# Altium footprint library ICs.PcbLib: 32 footprints (part 2 of 2)
Each footprint in its own frame and in the unit in brackets; x right, y up, seen from the top. Pads: shape width x height; smd on the part's side, far side on the other; paste and mask are expansions set on the pad; w line width, h text height; cw(c..) or ccw(c..) is an arc to the next point about the centre after c.
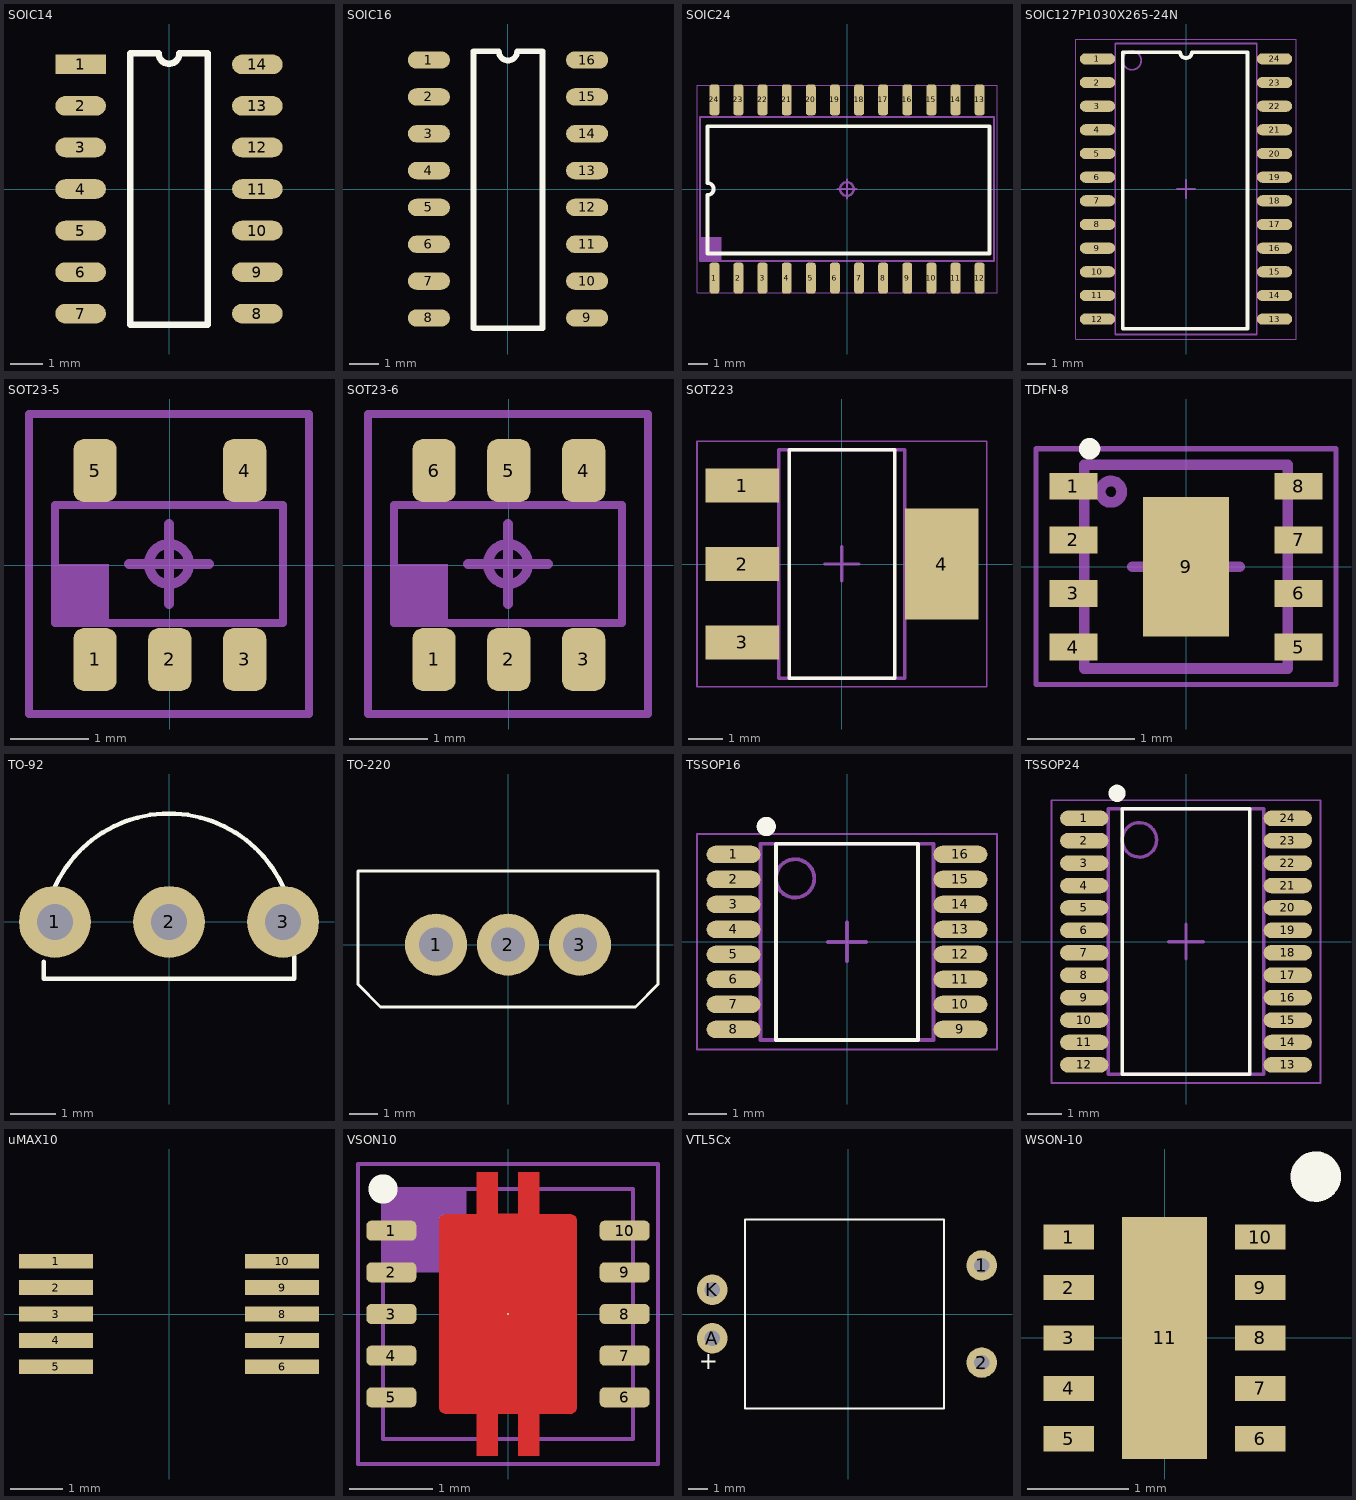
[diagram p1: the footprints below, top view; thin cyan lines are the x and y axes]

## SOIC14 [mm] "SOIC14"
pads (14):
  rect 1.55x0.6 smd: 1(-2.7,3.81)
  oval 1.55x0.6 smd: 2(-2.7,2.54) 3(-2.7,1.27) 4(-2.7,0) 5(-2.7,-1.27) 6(-2.7,-2.54) 7(-2.7,-3.81) 8(2.7,-3.81) 9(2.7,-2.54) 10(2.7,-1.27) 11(2.7,0) 12(2.7,1.27) 13(2.7,2.54) 14(2.7,3.81)
Top Overlay:
  lines w0.2: -1.19,-4.145 -1.19,4.145 -0.318,4.145 ccw(c0,4.145) 0.318,4.145 1.19,4.145 1.19,-4.145 -1.19,-4.145
3D body "SOIC14-150-50.STEP": height 1.91, standoff 0, extent -2.906,-4.318 3.094,4.392

## SOIC16 [mm] "SOIC, 16-Leads, Body 9,90x3,90mm, Pitch 1,27mm, IPC Medium Density"
height 1.76
pads (16):
  oval 1.45x0.6 smd: 1(-2.725,4.445) 2(-2.725,3.175) 3(-2.725,1.905) 4(-2.725,0.635) 5(-2.725,-0.635) 6(-2.725,-1.905) 7(-2.725,-3.175) 8(-2.725,-4.445) 9(2.725,-4.445) 10(2.725,-3.175) 11(2.725,-1.905) 12(2.725,-0.635) 13(2.725,0.635) 14(2.725,1.905) 15(2.725,3.175) 16(2.725,4.445)
Top Overlay:
  lines w0.2: -1.19,-4.8 -1.19,4.745 -0.318,4.745 ccw(c0,4.745) 0.318,4.745 1.19,4.745 1.19,-4.8 ; -1.18,-4.8 1.2,-4.8
3D body "SOIC127P600X175-16N.step": height 1.75, standoff 0, extent -2.997,-5 2.997,5

## SOIC24 [mm] "SOIC24"
pads (24):
  rrect50% 0.52x1.62 smd: 1(-6.985,-4.69) 2(-5.715,-4.69) 3(-4.445,-4.69) 4(-3.175,-4.69) 5(-1.905,-4.69) 6(-0.635,-4.69) 7(0.635,-4.69) 8(1.905,-4.69) 9(3.175,-4.69) 10(4.445,-4.69) 11(5.715,-4.69) 12(6.985,-4.69) 13(6.985,4.69) 14(5.715,4.69) 15(4.445,4.69) 16(3.175,4.69) 17(1.905,4.69) 18(0.635,4.69) 19(-0.635,4.69) 20(-1.905,4.69) 21(-3.175,4.69) 22(-4.445,4.69) 23(-5.715,4.69) 24(-6.985,4.69)
Top Overlay:
  lines w0.2: -7.345,-3.4 -7.345,-0.318 ccw(c-7.345,0) -7.345,0.318 -7.345,3.3 7.5,3.3 7.5,-3.4 -7.345,-3.4
Mechanical 13:
  region: -6.604,-3.8 -6.604,-2.54 -7.75,-2.54 -7.75,-3.8
  lines w0.1: -7.75,-3.8 -7.75,3.8 7.75,3.8 7.75,-3.8 -7.75,-3.8
Mechanical 15:
  circle w0.127: c0,0 r0.359
  lines w0.05: -7.9,-5.475 -7.9,5.475 7.9,5.475 7.9,-5.475 -7.9,-5.475
  lines w0.1: -0.5,0 0.5,0 ; 0,-0.5 0,0.5
3D body "SOIC127P1030X265-24L.step": height 2.65, standoff 0, extent -7.75,-5.15 7.75,5.15

## SOIC127P1030X265-24N [mm] "SOIC, 24-Leads, Body 15,40x7,50mm, Pitch 1,27mm, IPC Medium Density"
height 2.65
pads (24):
  oval 1.9x0.6 smd: 1(-4.75,6.985) 2(-4.75,5.715) 3(-4.75,4.445) 4(-4.75,3.175) 5(-4.75,1.905) 6(-4.75,0.635) 7(-4.75,-0.635) 8(-4.75,-1.905) 9(-4.75,-3.175) 10(-4.75,-4.445) 11(-4.75,-5.715) 12(-4.75,-6.985) 13(4.75,-6.985) 14(4.75,-5.715) 15(4.75,-4.445) 16(4.75,-3.175) 17(4.75,-1.905) 18(4.75,-0.635) 19(4.75,0.635) 20(4.75,1.905) 21(4.75,3.175) 22(4.75,4.445) 23(4.75,5.715) 24(4.75,6.985)
Top Overlay:
  lines w0.2: -3.4,-7.5 3.3,-7.5 3.3,7.345 0.318,7.345 cw(c0,7.345) -0.318,7.345 -3.4,7.345 -3.4,-7.5
Mechanical 13:
  circle w0.1: c-2.9,6.9 r0.5
  lines w0.1: -3.8,-7.8 3.8,-7.8 3.8,7.8 -3.8,7.8 -3.8,-7.8
Mechanical 15:
  lines w0.05: -5.925,-8.05 5.925,-8.05 5.925,8.05 -5.925,8.05 -5.925,-8.05
  lines w0.1: -0.5,0 0.5,0 ; 0,-0.5 0,0.5
3D body "SOIC127P1030X265-24N.step": height 2.65, standoff 0, extent -5.15,-7.8 5.15,7.8

## SOT23-5 [mm] "SOT23-5"
pads (5):
  rrect50% 0.55x0.8 smd: 1(-0.95,-1.2) 2(0,-1.2) 3(0.95,-1.2) 4(0.95,1.2) 5(-0.95,1.2)
Mechanical 13:
  rectangle: -1.461,-0.737 -0.773,0.013
  lines w0.1: -1.461,-0.737 -1.461,0.763 1.439,0.763 1.439,-0.737 -1.461,-0.737
Mechanical 15:
  circle w0.127: c-0.011,0.013 r0.254
  lines w0.1: -1.789,-1.892 1.767,-1.892 1.767,1.918 -1.789,1.918 -1.789,-1.892
  lines w0.127: -0.519,0.013 0.497,0.013 ; -0.011,-0.495 -0.011,0.521
3D body "sot25.step": height 1.1, standoff -0.05, extent -1.511,-1.112 1.489,1.288

## SOT23-6 [mm] "SOT23-6"
pads (6):
  rrect50% 0.55x0.8 smd: 1(-0.95,-1.2) 2(0,-1.2) 3(0.95,-1.2) 4(0.95,1.2) 5(0,1.2) 6(-0.95,1.2)
Mechanical 13:
  rectangle: -1.461,-0.737 -0.773,0.013
  lines w0.1: -1.461,-0.737 1.439,-0.737 1.439,0.763 -1.461,0.763 -1.461,-0.737
Mechanical 15:
  circle w0.127: c-0.011,0.013 r0.254
  lines w0.1: -1.789,-1.892 -1.789,1.918 1.767,1.918 1.767,-1.892 -1.789,-1.892
  lines w0.127: -0.519,0.013 0.497,0.013 ; -0.011,-0.495 -0.011,0.521
3D body "SOT-23-6.step": height 1.09, standoff 0, extent -1.394,-1.213 1.4,1.213

## SOT223 [mm] "SOT223, 4-Leads"
height 1.8
pads (4):
  rect 2.15x1 smd: 1(-2.925,2.3) 2(-2.925,0) 3(-2.925,-2.3)
  rect 2.15x3.25 smd: 4(2.925,0)
Top Overlay:
  lines w0.1: -1.55,-3.35 1.55,-3.35 1.55,3.35 -1.55,3.35 -1.55,-3.35
Mechanical 13:
  lines w0.1: -1.85,-3.35 1.85,-3.35 1.85,3.35 -1.85,3.35 -1.85,-3.35
Mechanical 15:
  lines w0.05: -4.25,-3.6 4.25,-3.6 4.25,3.6 -4.25,3.6 -4.25,-3.6
  lines w0.1: -0.5,0 0.5,0 ; 0,-0.5 0,0.5
3D body "SOT2323.step": height 1.8, standoff 0, extent -3.5,-3.35 3.5,3.35

## TDFN-8 [mm]
height 0.8
pads (9):
  rect 0.45x0.25 smd mask+0.05: 1(-1.05,0.75) 2(-1.05,0.25) 3(-1.05,-0.25) 4(-1.05,-0.75) 5(1.05,-0.75) 6(1.05,-0.25) 7(1.05,0.25) 8(1.05,0.75)
  rect 0.8x1.3 smd mask+0.05: 9(0,0)
Top Overlay:
  circle w0.1: c-0.9,1.1 r0.05
Mechanical 13:
  circle w0.1: c-0.7,0.7 r0.1
  lines w0.1: -0.95,-0.95 -0.95,0.95 0.95,0.95 0.95,-0.95 -0.95,-0.95
Mechanical 15:
  lines w0.05: -1.4,-1.1 -1.4,1.1 1.4,1.1 1.4,-1.1 -1.4,-1.1
  lines w0.1: -0.5,0 0.5,0 ; 0,-0.5 0,0.5
3D body "TDFN-8.step": height 0.8, standoff 0, extent -1.15,-0.95 1.15,0.95

## TO-92 [mm] "TO-92"
pads (3):
  round 1.6 hole 0.8: 1(-2.54,0) 2(0,0) 3(2.54,0)
Top Overlay:
  lines w0.1: -2.794,-0.889 -2.794,-1.27 2.794,-1.27 2.794,-0.762 ; -2.794,-0.381 cw(c0,-0.381) 2.794,-0.381
3D body "TO-92.stp": height 8.58, standoff -3, extent -2.77,-1.21 2.77,2.35

## TO-220 [mm] "TO-220"
pads (3):
  round 2.2 hole 1.2: 1(-2.54,0) 2(0,0) 3(2.54,0)
Top Overlay:
  lines w0.1: -5.3,-1.4 -4.5,-2.2 4.5,-2.2 5.3,-1.4 5.3,2.6 -5.3,2.6 -5.3,-1.4
3D body "User Library-TO-220AB.STEP": height 20.86, standoff -3, extent -5.335,-2.23 5.335,2.6

## TSSOP16 [mm] "TSSOP16"
height 1.2
pads (16):
  oval 1.4x0.45 smd: 1(-2.95,2.275) 2(-2.95,1.625) 3(-2.95,0.975) 4(-2.95,0.325) 5(-2.95,-0.325) 6(-2.95,-0.975) 7(-2.95,-1.625) 8(-2.95,-2.275) 9(2.95,-2.275) 10(2.95,-1.625) 11(2.95,-0.975) 12(2.95,-0.325) 13(2.95,0.325) 14(2.95,0.975) 15(2.95,1.625) 16(2.95,2.275)
Top Overlay:
  circle w0.25: c-2.1,3 r0.125
  lines w0.1: -1.85,-2.55 -1.85,2.55 1.85,2.55 1.85,-2.55 -1.85,-2.55
Mechanical 13:
  circle w0.1: c-1.35,1.65 r0.5
  lines w0.1: -2.25,-2.55 -2.25,2.55 2.25,2.55 2.25,-2.55 -2.25,-2.55
Mechanical 15:
  lines w0.05: -3.9,-2.8 -3.9,2.8 3.9,2.8 3.9,-2.8 -3.9,-2.8
  lines w0.1: -0.5,0 0.5,0 ; 0,-0.5 0,0.5
3D body "TSOP65P640X120-16N.step": height 1.2, standoff 0, extent -3.2,-2.55 3.2,2.55

## TSSOP24 [mm] "TSSOP24"
pads (24):
  oval 1.4x0.45 smd: 1(-2.95,3.575) 2(-2.95,2.925) 3(-2.95,2.275) 4(-2.95,1.625) 5(-2.95,0.975) 6(-2.95,0.325) 7(-2.95,-0.325) 8(-2.95,-0.975) 9(-2.95,-1.625) 10(-2.95,-2.275) 11(-2.95,-2.925) 12(-2.95,-3.575) 13(2.95,-3.575) 14(2.95,-2.925) 15(2.95,-2.275) 16(2.95,-1.625) 17(2.95,-0.975) 18(2.95,-0.325) 19(2.95,0.325) 20(2.95,0.975) 21(2.95,1.625) 22(2.95,2.275) 23(2.95,2.925) 24(2.95,3.575)
Top Overlay:
  circle w0.25: c-2,4.3 r0.125
  lines w0.1: -1.85,-3.85 1.85,-3.85 1.85,3.85 -1.85,3.85 -1.85,-3.85
Mechanical 13:
  circle w0.1: c-1.35,2.95 r0.5
  lines w0.1: -2.25,-3.85 -2.25,3.85 2.25,3.85 2.25,-3.85 -2.25,-3.85
Mechanical 15:
  lines w0.05: -3.9,-4.1 3.9,-4.1 3.9,4.1 -3.9,4.1 -3.9,-4.1
  lines w0.1: -0.5,0 0.5,0 ; 0,-0.5 0,0.5
3D body "tssop_24.step": height 1.21, standoff -0.01, extent -3.202,-3.9 3.2,3.9

## uMAX10 [mm] "uMAX10"
pads (10):
  rect 1.4x0.28 smd mask+0.01: 1(-2.14,1) 2(-2.14,0.5) 3(-2.14,0) 4(-2.14,-0.5) 5(-2.14,-1) 6(2.14,-1) 7(2.14,-0.5) 8(2.14,0) 9(2.14,0.5) 10(2.14,1)
Top Overlay:
  text "." at -3.246,1.454 h1.52
3D body "uMAX10.STEP": height 0.95, standoff 0, extent -2.5,-1.5 2.5,1.5

## VSON10 [mm]
pads (11):
  rrect50% 0.6x0.24 smd mask+0.07: 1(-1.4,1) 2(-1.4,0.5) 3(-1.4,0) 4(-1.4,-0.5) 5(-1.4,-1) 6(1.4,-1) 7(1.4,-0.5) 8(1.4,0) 9(1.4,0.5) 10(1.4,1)
  round 0.025 smd paste-2539.97 mask+0.07: 11(0,0)
Top Layer:
  region: 0.125,-1.2 0.125,-1.7 0.375,-1.7 0.375,-1.2 0.742,-1.2 0.759,-1.2 0.789,-1.187 0.812,-1.164 0.825,-1.134 0.825,-1.118 0.825,1.117 0.825,1.134 0.812,1.164 0.789,1.187 0.759,1.2 0.742,1.2 0.743,1.2 0.375,1.2 0.375,1.7 0.125,1.7 0.125,1.2 -0.125,1.2 -0.125,1.7 -0.375,1.7 -0.375,1.2 -0.743,1.2 -0.759,1.2 -0.789,1.187 -0.812,1.164 -0.825,1.134 -0.825,1.118 -0.825,-1.118 -0.825,-1.134 -0.812,-1.164 -0.789,-1.187 -0.759,-1.2 -0.743,-1.2 -0.375,-1.2 -0.375,-1.7 -0.125,-1.7 -0.125,-1.2
Top Overlay:
  circle w0.25: c-1.5,1.5 r0.05
Top Paste:
  drawing of 6 lines, arcs and shapes, not listed
Mechanical 13:
  rectangle: -1.5,0.5 -0.5,1.5
  lines w0.05: -1.5,-1.5 -1.5,1.5 1.5,1.5 1.5,-1.5 -1.5,-1.5
Mechanical 15:
  lines w0.05: -0.5,0 0.5,0 ; 0,-0.5 0,0.5 ; -1.8,-1.8 -1.8,1.8 1.8,1.8 1.8,-1.8 -1.8,-1.8
3D body: height 1.05, standoff 1, extent -1.2,0.875 -0.8,1.275
3D body "LDC1101DRCR.stp": height 1, standoff 0, extent -1.5,-1.5 1.5,1.5

## VTL5Cx [mm] "VTL5Cx"
pads (4):
  round 1.6 hole 0.8: 1(6.985,2.54) 2(6.985,-2.54) A(-7.12,-1.27) K(-7.12,1.27)
Top Overlay:
  lines w0.1: -5.4,-4.953 5,-4.953 5,4.953 -5.4,4.953 -5.4,-4.953
  text "+" at -6.812,-3.175 h1.5
3D body "VTL (vactrol).step": height 8.1, standoff -3, extent -7.235,-4.95 7.235,4.95

## WSON-10 [mm] "WSON-10"
pads (11):
  rect 0.5x0.25 smd mask+0.07: 1(-0.95,1) 2(-0.95,0.5) 3(-0.95,0) 4(-0.95,-0.5) 5(-0.95,-1) 6(0.95,-1) 7(0.95,-0.5) 8(0.95,0) 9(0.95,0.5) 10(0.95,1)
  rect 0.84x2.4 smd paste-2539.97 mask+0.07: 11(0,0)
Top Overlay:
  circle w0.25: c1.5,1.6 r0.125
Top Paste:
  rectangle: -0.375,0.15 0.375,1.15
  region: 0.375,-0.15 -0.375,-0.15 -0.375,-1.15 0.375,-1.15
3D body "DQC0010B.stp": height 0.39, standoff -0.35, extent -1,-1.5 1,1.5